# Altium schematic symbol library XTAL 32M.SchLib: 1 symbol
Pins are listed as number, name and electrical type; pins without a type are passive.

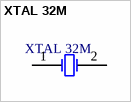
[diagram p0: symbol XTAL 32M]

## XTAL 32M
designator XTAL 32M  (value not drawn)
footprint XTAL 32M
pins: 1 OSC1, 2 OSC2